# Altium footprint library SamacSys.PcbLib: 7 footprints
Each footprint in its own frame and in the unit in brackets; x right, y up, seen from the top. Pads: shape width x height; smd on the part's side, far side on the other; paste and mask are expansions set on the pad; w line width, h text height; cw(c..) or ccw(c..) is an arc to the next point about the centre after c.
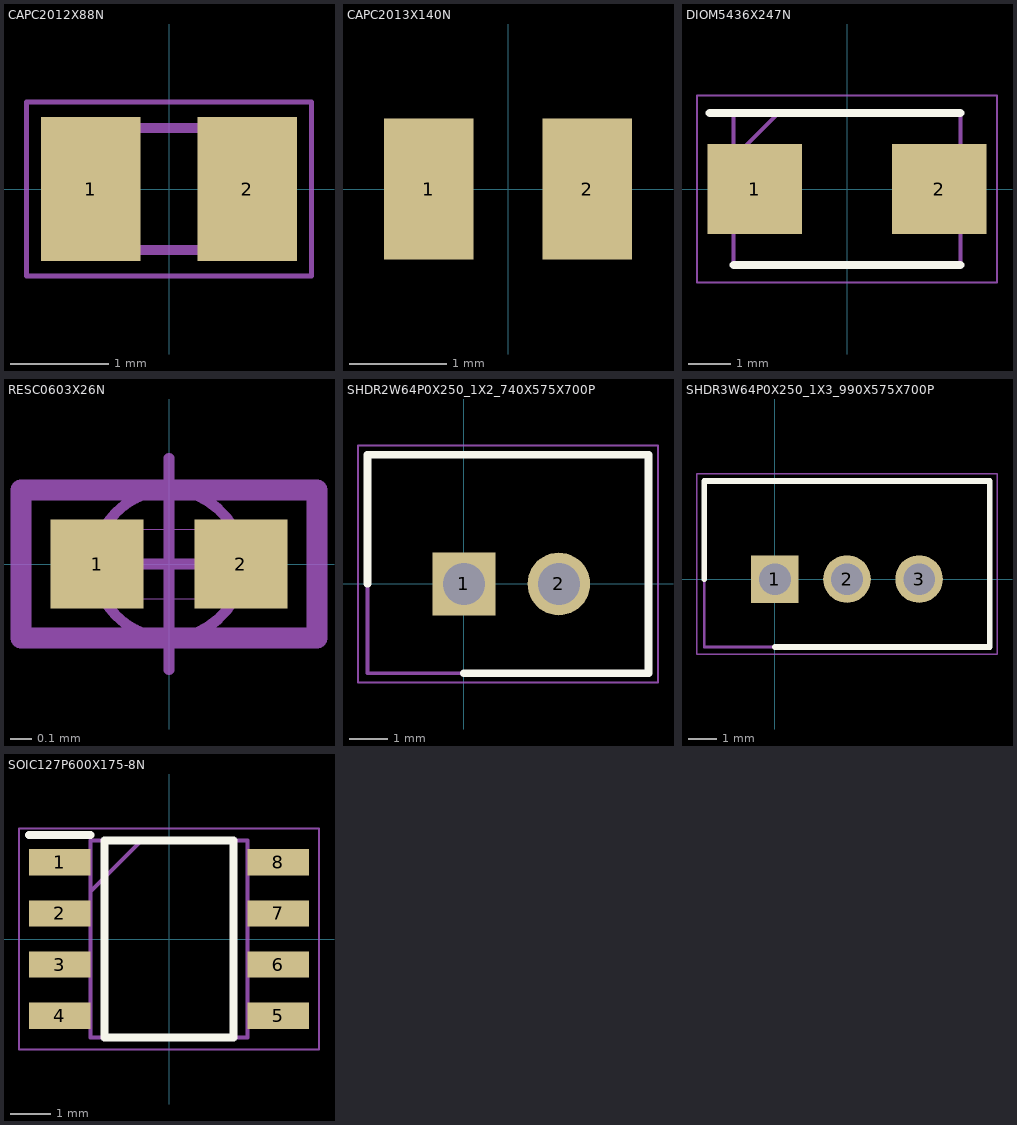
[diagram p0: the footprints below, top view; thin cyan lines are the x and y axes]

## CAPC2012X88N [mm]
pads (2):
  rect 1.02x1.47 smd: 1(-0.8,0) 2(0.8,0)
Mechanical 13:
  lines w0.1: -1,-0.625 1,-0.625 1,0.625 -1,0.625 -1,-0.625
Mechanical 15:
  lines w0.05: -1.46,-0.89 1.46,-0.89 1.46,0.89 -1.46,0.89 -1.46,-0.89
3D body "C0805C104K5RACTU.stp": height 0.88, standoff 0, extent -1,-0.625 1,0.625

## CAPC2013X140N [mil]
pads (2):
  rect 36x57 smd: 1(-32,0) 2(32,0)
3D body "C0805C106K8PACTU.stp": height 1743.34, standoff 1686.25, extent -3854.66,419.06 -3768.05,474.18

## DIOM5436X247N [mm]
pads (2):
  rect 2.25x2.15 smd: 1(-2.2,0) 2(2.2,0)
Top Overlay:
  lines w0.2: -3.275,1.812 2.702,1.812 ; -2.702,-1.812 2.702,-1.812
Mechanical 13:
  lines w0.1: -2.702,0.738 -1.628,1.812 ; -2.702,-1.812 -2.702,1.812 2.702,1.812 2.702,-1.812 -2.702,-1.812
Mechanical 15:
  lines w0.05: -3.575,-2.225 -3.575,2.225 3.575,2.225 3.575,-2.225 -3.575,-2.225
3D body "1SMB5918BT3G.stp": height 2.47, standoff 0, extent -2.702,-1.813 2.702,1.813

## RESC0603X26N [mm]
pads (2):
  rect 0.44x0.42 smd: 1(-0.34,0) 2(0.34,0)
Mechanical 13:
  lines w0.1: -0.7,-0.35 0.7,-0.35 0.7,0.35 -0.7,0.35 -0.7,-0.35
Mechanical 15:
  circle w0.05: c0,0 r0.35
  lines w0.001: -0.315,-0.165 0.315,-0.165 0.315,0.165 -0.315,0.165 -0.315,-0.165
  lines w0.05: -0.5,0 0.5,0 ; 0,-0.5 0,0.5 ; -0.71,-0.36 0.71,-0.36 0.71,0.36 -0.71,0.36 -0.71,-0.36
3D body "RC0201JR-0710RL.stp": height 0.26, standoff 0, extent -0.3,-0.15 0.3,0.15

## SHDR2W64P0X250_1X2_740X575X700P [mm]
pads (2):
  rect 1.65x1.65 hole 1.1: 1(0,0)
  round 1.65 hole 1.1: 2(2.5,0)
Top Overlay:
  lines w0.2: -2.54,0 -2.54,3.4 4.86,3.4 4.86,-2.35 0,-2.35
Mechanical 13:
  lines w0.1: -2.54,-2.35 4.86,-2.35 4.86,3.4 -2.54,3.4 -2.54,-2.35
Mechanical 15:
  lines w0.05: -2.79,-2.6 5.11,-2.6 5.11,3.65 -2.79,3.65 -2.79,-2.6
3D body "B2B-XH-A(LF)(SN).stp": height 7, standoff -3.4, extent -2.45,-2.875 4.95,2.875

## SHDR3W64P0X250_1X3_990X575X700P [mm]
pads (3):
  rect 1.65x1.65 hole 1.1: 1(0,0)
  round 1.65 hole 1.1: 2(2.5,0) 3(5,0)
Top Overlay:
  lines w0.2: -2.45,0 -2.45,3.4 7.45,3.4 7.45,-2.35 0,-2.35
Mechanical 13:
  lines w0.1: -2.45,-2.35 7.45,-2.35 7.45,3.4 -2.45,3.4 -2.45,-2.35
Mechanical 15:
  lines w0.05: -2.7,-2.6 7.7,-2.6 7.7,3.65 -2.7,3.65 -2.7,-2.6

## SOIC127P600X175-8N [mm]
pads (8):
  rect 1.525x0.65 smd: 1(-2.712,1.905) 2(-2.712,0.635) 3(-2.712,-0.635) 4(-2.712,-1.905) 5(2.712,-1.905) 6(2.712,-0.635) 7(2.712,0.635) 8(2.712,1.905)
Top Overlay:
  lines w0.2: -3.475,2.58 -1.95,2.58 ; -1.6,-2.45 1.6,-2.45 1.6,2.45 -1.6,2.45 -1.6,-2.45
Mechanical 13:
  lines w0.1: -1.95,1.18 -0.68,2.45 ; -1.95,-2.45 1.95,-2.45 1.95,2.45 -1.95,2.45 -1.95,-2.45
Mechanical 15:
  lines w0.05: -3.725,-2.75 3.725,-2.75 3.725,2.75 -3.725,2.75 -3.725,-2.75
3D body "NE555DR.stp": height 1.75, standoff 0, extent -3,-2.45 3,2.45